# Altium schematic symbol library 20SVF56M.SchLib: 1 symbol
Pins are listed as number, name and electrical type; pins without a type are passive.

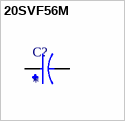
[diagram p0: symbol 20SVF56M]

## 20SVF56M
designator C?
MF: {'manufacturer': u'Panasonic'}; MP: 20SVF56M; Value: *; Availability: Unavailable; Price: None; Package: None
footprint CAP_20SVF56M
pins: 1, 2